# Altium schematic symbol library Other.SchLib: 2 symbols
Pins are listed as number, name and electrical type; pins without a type are passive.

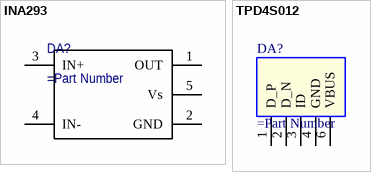
[diagram p0: symbols INA293 to TPD4S012]

## INA293
designator DA?
pins: 1 OUT, 2 GND, 3 IN+, 4 IN-, 5 Vs

## TPD4S012
designator DA?
pins: 1 D_P, 2 D_N, 3 ID, 4 GND (power), 6 VBUS (power)